# EAGLE library part ADC_AD9214 (library akita)
AnalogDevice 10bit 80Msps ADC
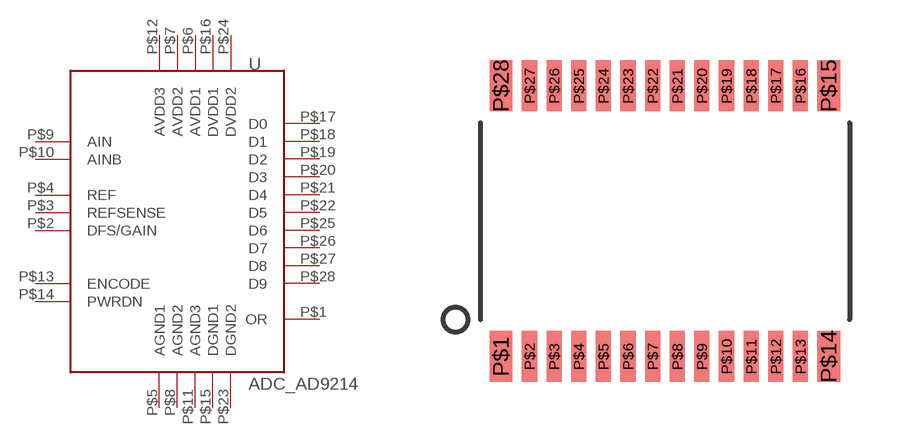
[diagram p137: symbol with the pads of TSSOP28W; footprint TSSOP28W]

Designator prefix U

## ADC_AD9214  [TSSOP28W]
P$1  OR
P$2  DFS/GAIN
P$3  REFSENSE
P$4  REF
P$5  AGND1
P$6  AVDD1
P$7  AVDD2
P$8  AGND2
P$9  AIN
P$10  AINB
P$11  AGND3
P$12  AVDD3
P$13  ENCODE
P$14  PWRDN
P$15  DGND1
P$16  DVDD1
P$17  D0
P$18  D1
P$19  D2
P$20  D3
P$21  D4
P$22  D5
P$23  DGND2
P$24  DVDD2
P$25  D6
P$26  D7
P$27  D8
P$28  D9

## Footprint TSSOP28W (pad centres in mm)
TSSOP28 (0.65mm pitch, W=7.9mm)
smd 0.6 x 1.35: P$1 -4.325,-3.575; P$14 4.325,-3.575; P$15 4.325,3.575; P$28 -4.325,3.575
smd 0.4 x 1.35: P$2 -3.575,-3.575; P$3 -2.925,-3.575; P$4 -2.275,-3.575; P$5 -1.625,-3.575; P$6 -0.975,-3.575; P$7 -0.325,-3.575; P$8 0.325,-3.575; P$9 0.975,-3.575; P$10 1.625,-3.575; P$11 2.275,-3.575; P$12 2.925,-3.575; P$13 3.575,-3.575; P$16 3.575,3.575; P$17 2.925,3.575; P$18 2.275,3.575; P$19 1.625,3.575; P$20 0.975,3.575; P$21 0.325,3.575; P$22 -0.325,3.575; P$23 -0.975,3.575; P$24 -1.625,3.575; P$25 -2.275,3.575; P$26 -2.925,3.575; P$27 -3.575,3.575